# EAGLE library part HCS10017_DEV (library ORIC_Parts)
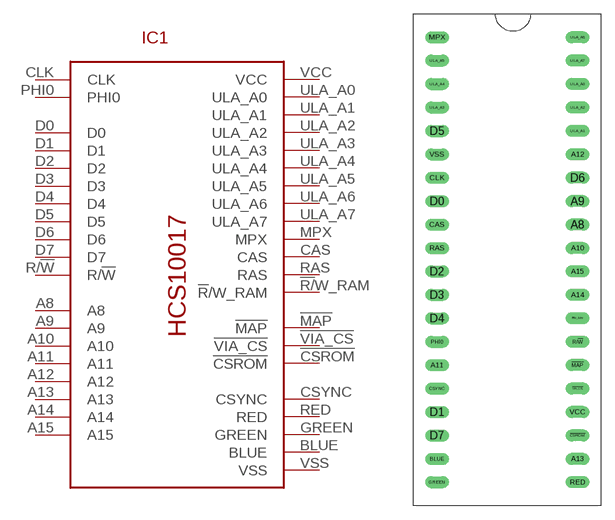
[diagram p0: symbol with the pads of HCS10017_DIP; footprint HCS10017_DIP]

Designator prefix IC1

## HCS10017_DEV  [HCS10017_DIP]
!CSROM  !CSROM  out
!MAP  !MAP  in
!R/!W_RAM  !R!/W_RAM  out
!VIA_CS  !VIA_CS  out
A8  A8  in
A9  A9  in
A10  A10  in
A11  A11  in
A12  A12  in
A13  A13  in
A14  A14  in
A15  A15  in
BLUE  BLUE  out
CAS  CAS  out
CLK  CLK  in
CSYNC  CSYNC  out
D0  D0
D1  D1
D2  D2
D3  D3
D4  D4
D5  D5
D6  D6
D7  D7
GREEN  GREEN  out
MPX  MPX  out
PHI0  PHI0  out
R/!W  R/!W  in
RAS  RAS  out
RED  RED  out
ULA_A0  ULA_A0  out
ULA_A1  ULA_A1  out
ULA_A2  ULA_A2  out
ULA_A3  ULA_A3  out
ULA_A4  ULA_A4  out
ULA_A5  ULA_A5  out
ULA_A6  ULA_A6  out
ULA_A7  ULA_A7  out
VCC  VCC  pwr
VSS  VSS  pwr

## Footprint HCS10017_DIP (pad centres in mm)
drill 0.8 long: !CSROM 7.62,-19.05; !MAP 7.62,-11.43; !R/!W_RAM 7.62,-6.35; !VIA_CS 7.62,-13.97; A8 7.62,3.81; A9 7.62,6.35; A10 7.62,1.27; A11 -7.62,-11.43; A12 7.62,11.43; A13 7.62,-21.59; A14 7.62,-3.81; A15 7.62,-1.27; BLUE -7.62,-21.59; CAS -7.62,3.81; CLK -7.62,8.89; CSYNC -7.62,-13.97; D0 -7.62,6.35; D1 -7.62,-16.51; D2 -7.62,-1.27; D3 -7.62,-3.81; D4 -7.62,-6.35; D5 -7.62,13.97; D6 7.62,8.89; D7 -7.62,-19.05; GREEN -7.62,-24.13; MPX -7.62,24.13; PHI0 -7.62,-8.89; R/!W 7.62,-8.89; RAS -7.62,1.27; RED 7.62,-24.13; ULA_A0 7.62,19.05; ULA_A1 7.62,13.97; ULA_A2 7.62,16.51; ULA_A3 -7.62,16.51; ULA_A4 -7.62,19.05; ULA_A5 -7.62,21.59; ULA_A6 7.62,24.13; ULA_A7 7.62,21.59; VCC 7.62,-16.51; VSS -7.62,11.43